# Altium footprint library SparkFun-Batteries.PCBLIB: 16 footprints
Each footprint in its own frame and in the unit in brackets; x right, y up, seen from the top. Pads: shape width x height; smd on the part's side, far side on the other; paste and mask are expansions set on the pad; w line width, h text height; cw(c..) or ccw(c..) is an arc to the next point about the centre after c.
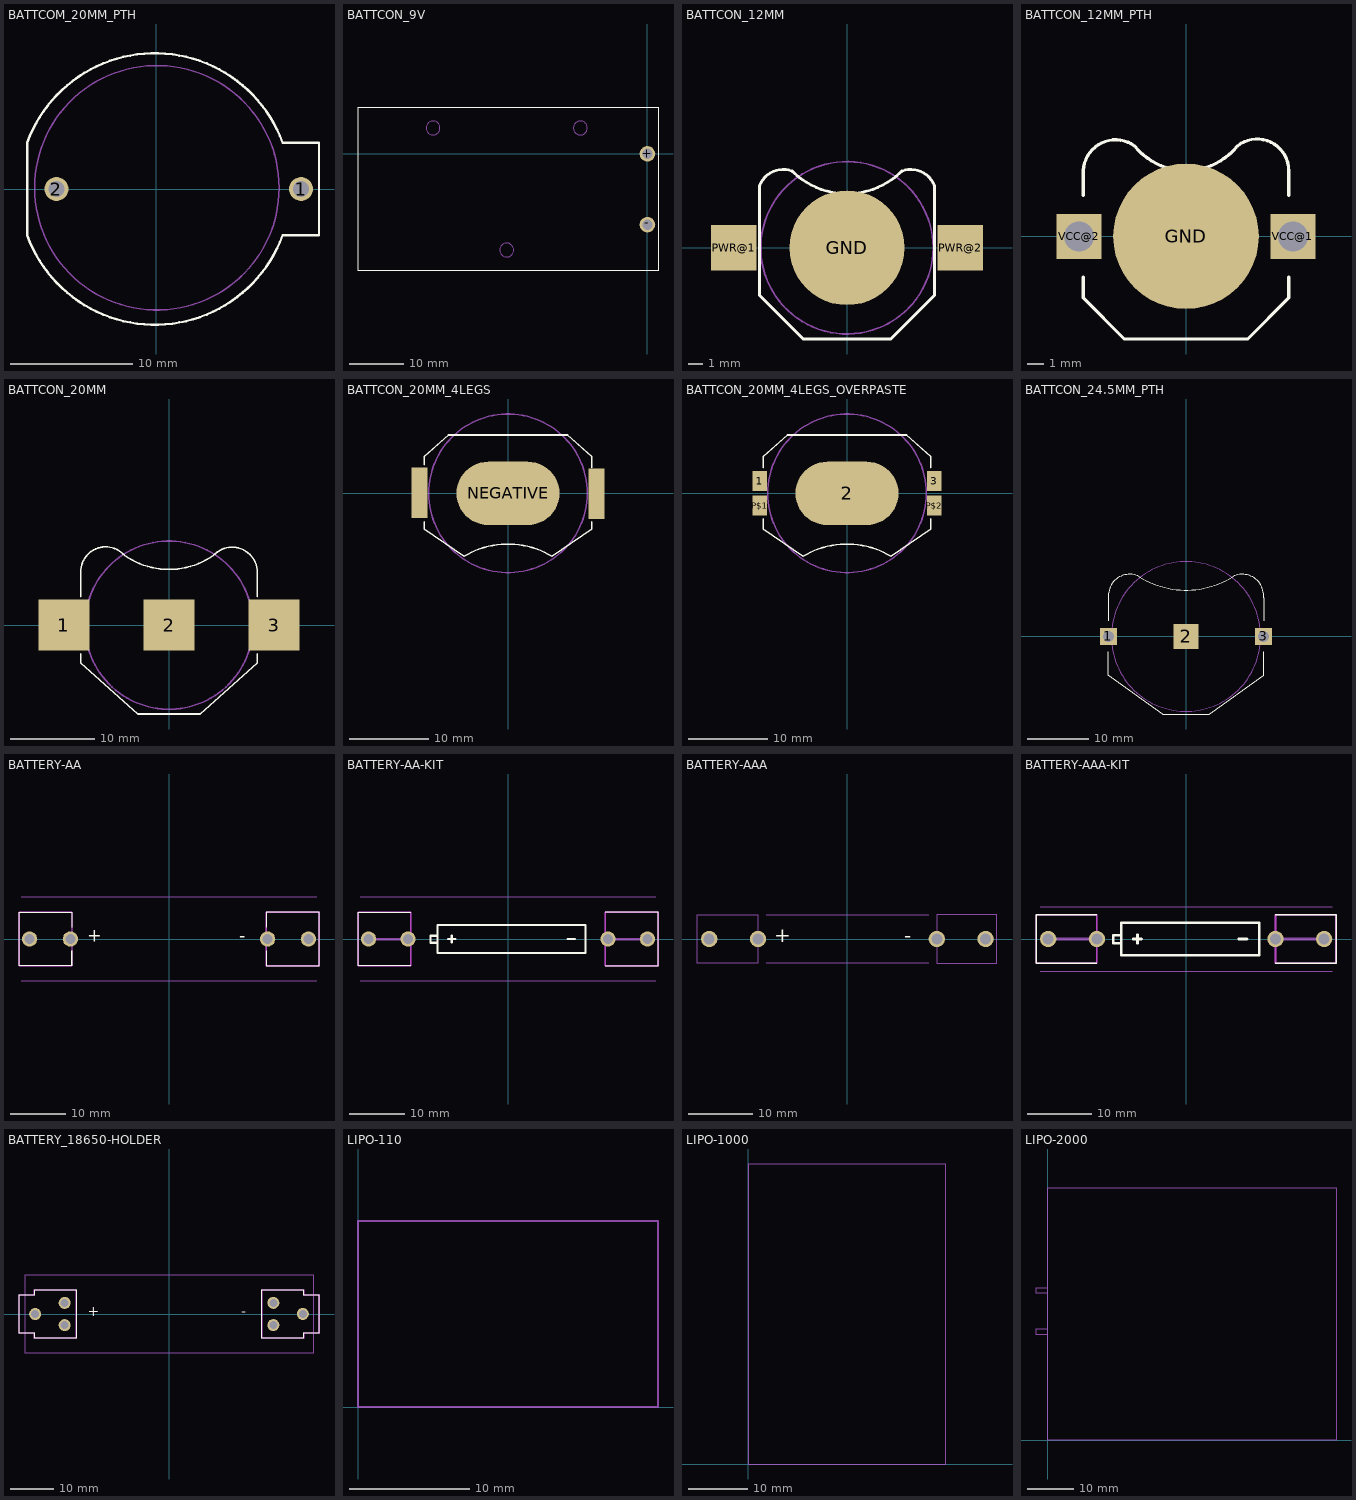
[diagram p0: the footprints below, top view; thin cyan lines are the x and y axes]

## BATTCOM_20MM_PTH [mil]
pads (2):
  round 76.77 hole 51.18: 1(466.54,0) 2(-320.87,0)
Top Overlay:
  lines w8: -414.96,-149.61 -414.96,149.61 cw(c-3.94,-0.57) 407.09,149.61 524.41,149.61 524.41,-149.61 407.09,-149.61 cw(c-3.94,0.57) -414.96,-149.61
Mechanical 16:
  circle w5: c2.36,3.94 r393.7
  text "+" at 338.58,-27.56 h77.5
  text "-" at -251.97,-27.56 h77.5

## BATTCON_9V [mil]
pads (2):
  round 112.5 hole 75: +(0,0) -(0,-510)
Top Overlay:
  lines w8: -2087,-843 76,-843 76,337 -2087,337 -2087,-843
Mechanical 16:
  circle w5: c-1546,187 r50
  circle w5: c-484,187 r50
  circle w5: c-1015,-693 r50

## BATTCON_12MM [mil]
pads (3):
  rrect100% 314.96x314.96 smd: GND(0,0)
  rect 125x125 smd: PWR@1(-310,0) PWR@2(310,0)
Top Overlay:
  lines w8: -240,-130 -120,-250 120,-250 240,-130 240,170 ccw(c175,145) 150,210 cw(c0,360) -150,210 ccw(c-175,145) -240,170 -240,-130
Top Paste:
  circle w78.74: c0,0 r39.37
Mechanical 16:
  circle w5: c0,0 r236.22
Mechanical 27:
  circle w5: c0,0 r236.22

## BATTCON_12MM_PTH [mil]
pads (3):
  rrect100% 354.33x354.33 smd: GND(0,0)
  rect 109.5x109.5 hole 73: VCC@1(260,0) VCC@2(-260,0)
Top Overlay:
  lines w8: -250,-100 -250,-150 -150,-250 150,-250 250,-150 250,-100 ; -250,100 -250,160 cw(c-171.35,156.35) -125,220 ccw(c0,320.21) 125,220 cw(c173.12,160.04) 250,160 250,100
Top Paste:
  circle w78.74: c0,0 r39.37

## BATTCON_20MM [mil]
pads (3):
  rect 238.98x238.98 smd: 1(-492.13,0) 2(0,0) 3(492.13,0)
Top Overlay:
  lines w8: -413.39,-133.86 -413.39,-177.17 -145.67,-416.14 145.67,-416.14 413.39,-177.17 413.39,-133.86 ; -413.39,133.86 -413.39,248.03 cw(c-296.55,249.77) -208.66,326.77 ccw(c0,624.77) 208.66,326.77 cw(c295.52,247.08) 413.39,248.03 413.39,133.86
Mechanical 16:
  circle w8: c0,0 r393.7

## BATTCON_20MM_4LEGS [mil]
pads (5):
  rrect100% 511.81x314.96 smd: NEGATIVE(0,0)
  rect 80x125 smd: POSITIVE@1(-440,65) POSITIVE@2(-440,-60) POSITIVE@3(440,60) POSITIVE@4(440,-65)
Top Overlay:
  lines w8: -415.35,-140.98 -415.35,-179.13 -218.5,-312.99 cw(c0,-673.66) 218.5,-312.99 415.35,-179.13 415.35,-140.98 ; -415.35,140.98 -415.35,183.07 -295.28,289.37 295.28,289.37 415.35,183.07 415.35,125.98
Top Paste:
  rectangle: -78.74,-78.74 78.74,78.74
  rectangle: -530,-135 -390,145
  rectangle: 390,-140 530,140
Mechanical 16:
  circle w8: c0,0 r393.7
  lines w8: -450.79,-100.39 -415.35,-100.39 -415.35,-21.65 -450.79,-21.65 -450.79,-100.39 ; -450.79,21.65 -415.35,21.65 -415.35,100.39 -450.79,100.39 -450.79,21.65 ; 415.35,-100.39 415.35,-21.65 450.79,-21.65 450.79,-100.39 415.35,-100.39 ; 415.35,21.65 415.35,100.39 450.79,100.39 450.79,21.65 415.35,21.65

## BATTCON_20MM_4LEGS_OVERPASTE [mil]
pads (5):
  rect 70x100 smd: 1(-433.07,61.02) 3(433.07,61.02) P$1(-433.07,-61.02) P$2(433.07,-61.02)
  rrect100% 511.81x314.96 smd: 2(0,0)
Top Overlay:
  lines w8: -415.35,-125.98 -415.35,-179.13 -218.5,-312.99 cw(c0,-673.66) 218.5,-312.99 415.35,-179.13 415.35,-125.98 ; -415.35,125.98 -415.35,183.07 -295.28,289.37 295.28,289.37 415.35,183.07 415.35,125.98
Top Paste:
  rectangle: -78.74,-78.74 78.74,78.74
  rectangle: -550,-120 -390,120
  rectangle: 390,-120 550,120
Mechanical 16:
  circle w8: c0,0 r393.7
  lines w8: -450.79,-100.39 -415.35,-100.39 -415.35,-21.65 -450.79,-21.65 -450.79,-100.39 ; -450.79,21.65 -415.35,21.65 -415.35,100.39 -450.79,100.39 -450.79,21.65 ; 415.35,-100.39 415.35,-21.65 450.79,-21.65 450.79,-100.39 415.35,-100.39 ; 415.35,21.65 415.35,100.39 450.79,100.39 450.79,21.65 415.35,21.65

## BATTCON_24.5MM_PTH [mil]
pads (3):
  rect 109.5x109.5 hole 73: 1(-500,0) 3(500,0)
  rect 160x160 smd: 2(0,0)
Top Overlay:
  lines w8: -500,-100 -500,-250 -150,-500 150,-500 500,-250 500,-100 ; -500,100 -500,250 cw(c-363.94,264.08) -300,385 ccw(c0,867.1) 300,385 cw(c363.94,264.07) 500,250 500,100
Mechanical 16:
  circle w8: c0,0 r482.28

## BATTERY-AA [mil]
pads (4):
  round 109.5 hole 73: GND@1(990,0) GND@2(700,0) PWR@1(-990,0) PWR@2(-700,0)
Top Overlay:
  lines w8: -690,-190 -1065,-190 -1065,190 -690,190 -690,85 ; 690,-85 690,-190 1065,-190 1065,190 690,190 690,85
  lines w10: -690,-190 -690,-85
  text "+" at -580,-50 h155
  text "-" at 500,-50 h155
Mechanical 8 keep-out:
  lines w8: -690,-190 -690,190
  lines w10: -690,-190 -1065,-190 -1065,190 -690,190 ; 690,-190 1065,-190 1065,190 690,190 690,-190
Mechanical 16:
  lines w5: -1050,-300 1050,-300 ; -1050,300 1050,300

## BATTERY-AA-KIT [mil]
pads (4):
  round 109.5 hole 73: GND@1(990,0) GND@2(710,0) PWR@1(-990,0) PWR@2(-710,0)
Top Overlay:
  lines w8: -690,-190 -1065,-190 -1065,190 -690,190 ; 690,-190 1065,-190 1065,190 690,190
  lines w16: -425,0 -375,0 ; -400,-25 -400,25 ; 425,0 475,0 ; -500,-27 -500,23 ; -500,-27 -500,-100 550,-100 550,100 -500,100 -500,23 ; -500,-27 -550,-27 -550,23 -500,23
Top Solder:
  region: 0,0 10,0 10,10 0,10
  region: 0,0 10,0 10,10 0,10
  region: 0,0 10,0 10,10 0,10
  region: 0,0 10,0 10,10 0,10
Bottom Solder:
  region: 0,0 10,0 10,10 0,10
  region: 0,0 10,0 10,10 0,10
  region: 0,0 10,0 10,10 0,10
  region: 0,0 10,0 10,10 0,10
Mechanical 8 keep-out:
  lines w10: -1065,-190 -690,-190 -690,190 -1065,190 -1065,-190 ; 690,-190 1065,-190 1065,190 690,190 690,-190
Mechanical 14:
  lines w16: -945.5,-1.9 -744.6,-1.8 ; 744.5,-1.9 945.4,-1.8
Mechanical 16:
  lines w5: -1050,-300 1050,-300 ; -1050,300 1050,300

## BATTERY-AAA [mil]
pads (4):
  round 100.5 hole 67: GND@1(850,0) GND@2(550,0) PWR@1(-850,0) PWR@2(-550,0)
Top Overlay:
  text "+" at -450,-50 h155
  text "-" at 350,-50 h155
Mechanical 16:
  lines w5: -500,-150 500,-150 ; -500,150 500,150 ; -925,-150 -550,-150 -550,150 -925,150 -925,-150 ; 550,-150 550,150 920,150 920,-150 550,-150

## BATTERY-AAA-KIT [mil]
pads (4):
  round 100.5 hole 67: GND@1(850,0) GND@2(550,0) PWR@1(-850,0) PWR@2(-550,0)
Top Overlay:
  lines w8: -550,-150 -923,-150 -923,150 -550,150 ; 550,-150 923,-150 923,150 550,150
  lines w16: -325,0 -275,0 ; -300,-25 -300,25 ; 325,0 375,0 ; -400,-27 -400,23 ; -400,-27 -400,-100 450,-100 450,100 -400,100 -400,23 ; -400,-27 -450,-27 -450,23 -400,23
Top Solder:
  circle w35: c550,0 r15.81
  circle w35: c850,0 r15.81
  circle w35: c-550,0 r15.81
  circle w35: c-850,0 r15.81
Bottom Solder:
  circle w70: c550,0 r15.81
  circle w70: c850,0 r15.81
  circle w70: c-550,0 r15.81
  circle w70: c-850,0 r15.81
Mechanical 8 keep-out:
  lines w8: -923,-150 -923,150
  lines w10: -923,-150 -550,-150 -550,150 -923,150 ; 550,-150 923,-150 923,150 550,150 550,-150
Mechanical 14:
  lines w16: -850,0 -550,0 ; 550,0 850,0
Mechanical 16:
  lines w5: -925,-150 -925,150 ; -900,-200 900,-200 ; -900,200 900,200 ; -550,-150 -550,150 ; 550,-150 550,150 923,150 923,-150 550,-150
  lines w8: -925,-150 -550,-150 ; -925,150 -550,150

## BATTERY_18650-HOLDER [mil]
pads (6):
  round 108 hole 72: GND@1(1205.83,0.39) GND@2(940.16,100.39) GND@3(940.16,-99.61) PWR@1(-1205.83,-0.39) PWR@2(-940.16,99.61) PWR@3(-940.16,-100.39)
Top Overlay:
  lines w8: -1348.22,-175.39 -1211.22,-175.39 -1211.22,-219.39 -835.83,-219.39 -835.83,218.61 -1211.22,218.61 -1211.22,174.61 -1348.22,174.61 -1348.22,-175.39 ; 835.83,-218.61 835.83,219.39 1211.22,219.39 1211.22,175.39 1348.22,175.39 1348.22,-174.61 1211.22,-174.61 1211.22,-218.61 835.83,-218.61
  text "+" at -730,-50 h155
  text "-" at 650,-50 h155
Mechanical 8 keep-out:
  lines w8: -1351.37,-175 -1214.37,-175 -1214.37,-219 -839.37,-219 -839.37,219 -1214.37,219 -1214.37,175 -1351.37,175 -1351.37,-175 ; 835.83,-218.61 835.83,219.39 1211.22,219.39 1211.22,175.39 1348.22,175.39 1348.22,-174.61 1211.22,-174.61 1211.22,-218.61 835.83,-218.61 ; 839.37,-219 839.37,219 1214.37,219 1214.37,175 1351.37,175 1351.37,-175 1214.37,-175 1214.37,-219 839.37,-219
Mechanical 16:
  lines w5: -1299.21,-354.33 1299.21,-354.33 1299.21,354.33 -1299.21,354.33 -1299.21,-354.33

## LIPO-110 [mil]
Mechanical 16:
  lines w5: 0,0 0,610.24 984.25,610.24 984.25,0 0,0

## LIPO-1000 [mil]
Mechanical 16:
  lines w8: 0,0 1318.9,0 1318.9,2000 0,2000 0,0

## LIPO-2000 [mil]
Mechanical 16:
  lines w5: 0,900 0,0 2450,0 2450,2150 0,2150 0,1300 ; 0,900 0,950 ; 0,900 -100,900 -100,950 0,950 ; 0,950 0,1250 ; 0,1250 0,1300 ; 0,1250 -100,1250 -100,1300 0,1300